# Altium footprint library 2019-05-13_06-14-18.PcbLib: 3 footprints
Each footprint in its own frame and in the unit in brackets; x right, y up, seen from the top. Pads: shape width x height; smd on the part's side, far side on the other; paste and mask are expansions set on the pad; w line width, h text height; cw(c..) or ccw(c..) is an arc to the next point about the centre after c.
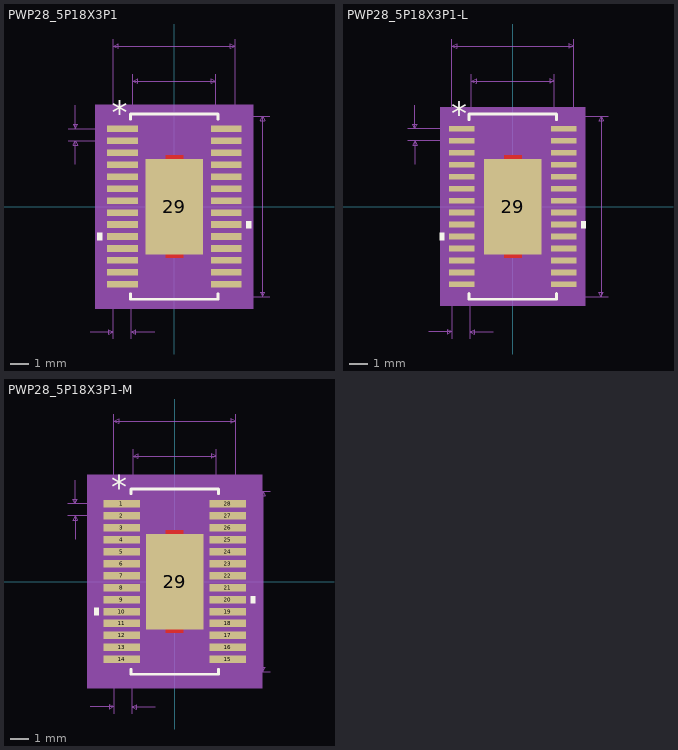
[diagram p0: the footprints below, top view; thin cyan lines are the x and y axes]

## PWP28_5P18X3P1 [mil]
pads (29):
  rect 66x14 smd paste+0 mask+0: 1(-111,166.34) 2(-111,140.75) 3(-111,115.16) 4(-111,89.57) 5(-111,63.98) 6(-111,38.39) 7(-111,12.8) 8(-111,-12.8) 9(-111,-38.39) 10(-111,-63.98) 11(-111,-89.57) 12(-111,-115.16) 13(-111,-140.75) 14(-111,-166.34) 15(111,-166.34) 16(111,-140.75) 17(111,-115.16) 18(111,-89.57) 19(111,-63.98) 20(111,-38.39) 21(111,-12.8) 22(111,12.8) 23(111,38.39) 24(111,63.98) 25(111,89.57) 26(111,115.16) 27(111,140.75) 28(111,166.34)
  rect 122.05x203.94 smd paste+0 mask+0: 29(0,0)
Top Layer:
  region: 18.7,-101.97 -18.7,-101.97 -18.7,-109.84 18.7,-109.84 18.7,-101.97
  region: 18.7,101.97 -18.7,101.97 -18.7,109.84 18.7,109.84 18.7,101.97
Top Overlay:
  region: 154,-30.89 164,-30.89 164,-45.89 154,-45.89
  region: -154,-56.48 -164,-56.48 -164,-71.48 -154,-71.48
  lines w6: -93.5,-186.44 -93.5,-197.91 93.5,-197.91 93.5,-186.44 ; -93.5,186.44 -93.5,197.91 93.5,197.91 93.5,186.44
  text "*" at -133.5,175.34 h50
Top Paste:
  region: 57.09,-54.92 3.94,-54.92 3.94,-98.03 57.09,-98.03
  region: 57.09,-3.94 3.94,-3.94 3.94,-47.05 57.09,-47.05
  region: 57.09,47.05 3.94,47.05 3.94,3.94 57.09,3.94
  region: 57.09,98.03 3.94,98.03 3.94,54.92 57.09,54.92
  region: -3.94,-54.92 -57.09,-54.92 -57.09,-98.03 -3.94,-98.03
  region: -3.94,-3.94 -57.09,-3.94 -57.09,-47.05 -3.94,-47.05
  region: -3.94,47.05 -57.09,47.05 -57.09,3.94 -3.94,3.94
  region: -3.94,98.03 -57.09,98.03 -57.09,54.92 -3.94,54.92
Top Solder:
  region: 18.7,-101.97 -18.7,-101.97 -18.7,-109.84 18.7,-109.84 18.7,-101.97
  region: 18.7,101.97 -18.7,101.97 -18.7,109.84 18.7,109.84 18.7,101.97
Mechanical 5:
  region: 169,-217.91 -169,-217.91 -169,217.91 169,217.91
Mechanical 7:
  lines w1: -226,140.75 -111,140.75 ; -226,166.34 -111,166.34 ; -211,90.75 -211,140.75 ; -211,216.34 -211,166.34 ; -180,-267.91 -130,-267.91 ; -130,-282.91 -130,0 -130,357.91 ; -92,-282.91 -92,0 ; -88.5,0 -88.5,282.91 ; -42,-267.91 -92,-267.91 ; 0,-192.91 203.5,-192.91 ; 0,192.91 203.5,192.91 ; 88.5,0 88.5,282.91 ; 130,0 130,357.91 ; -211,140.75 -206,130.75 -216,130.75 -211,140.75 ; -211,166.34 -206,176.34 -216,176.34 -211,166.34 ; -130,-267.91 -140,-272.91 -140,-262.91 -130,-267.91 ; -130,342.91 -120,337.91 -120,347.91 -130,342.91 ; -130,342.91 130,342.91 ; -92,-267.91 -82,-272.91 -82,-262.91 -92,-267.91 ; -88.5,267.91 -78.5,262.91 -78.5,272.91 -88.5,267.91 ; -88.5,267.91 88.5,267.91 ; 88.5,267.91 78.5,262.91 78.5,272.91 88.5,267.91 ; 130,342.91 120,337.91 120,347.91 130,342.91 ; 188.5,-192.91 193.5,-182.91 183.5,-182.91 188.5,-192.91 ; 188.5,-192.91 188.5,192.91 ; 188.5,192.91 193.5,182.91 183.5,182.91 188.5,192.91
  text "0.03in/0.762mm" at -198.5,-312.91 h25
  text "0.026in/0.65mm" at -406,141.05 h25
  text "0.386in/9.8mm" at 208.5,-12.5 h25
  text "0.26in/6.604mm" at -87.5,362.91 h25
  text "0.177in/4.496mm" at -93.75,287.91 h25
  text "Alt 2 Padstyle: OX90Y60D30P" at -337.5,-692.91 h50
  text "Alt 1 Padstyle: OX60Y90D30P" at -337.5,-632.91 h50
  text "Heat Tab Padstyle: RX122p05Y203p94D0T" at -462.5,-512.91 h50
  text "Pin One Padstyle: RX66Y14D0T" at -350,-452.91 h50
  text "Default Padstyle: RX66Y14D0T" at -350,-392.91 h50
Mechanical 13:
  lines w0: -12,192.91 ccw(c0,192.91) 12,192.91
  lines w1: -130,-172.34 -88.5,-172.34 -88.5,-160.34 -130,-160.34 -130,-172.34 ; -130,-146.75 -88.5,-146.75 -88.5,-134.75 -130,-134.75 -130,-146.75 ; -130,-121.16 -88.5,-121.16 -88.5,-109.16 -130,-109.16 -130,-121.16 ; -130,-95.57 -88.5,-95.57 -88.5,-83.57 -130,-83.57 -130,-95.57 ; -130,-69.98 -88.5,-69.98 -88.5,-57.98 -130,-57.98 -130,-69.98 ; -130,-44.39 -88.5,-44.39 -88.5,-32.39 -130,-32.39 -130,-44.39 ; -130,-18.8 -88.5,-18.8 -88.5,-6.8 -130,-6.8 -130,-18.8 ; -130,6.8 -88.5,6.8 -88.5,18.8 -130,18.8 -130,6.8 ; -130,32.39 -88.5,32.39 -88.5,44.39 -130,44.39 -130,32.39 ; -130,57.98 -88.5,57.98 -88.5,69.98 -130,69.98 -130,57.98 ; -130,83.57 -88.5,83.57 -88.5,95.57 -130,95.57 -130,83.57 ; -130,109.16 -88.5,109.16 -88.5,121.16 -130,121.16 -130,109.16 ; -130,134.75 -88.5,134.75 -88.5,146.75 -130,146.75 -130,134.75 ; -130,160.34 -88.5,160.34 -88.5,172.34 -130,172.34 -130,160.34 ; -88.5,-192.91 -88.5,192.91 88.5,192.91 88.5,-192.91 -88.5,-192.91 ; 88.5,-172.34 130,-172.34 130,-160.34 88.5,-160.34 88.5,-172.34 ; 88.5,-146.75 130,-146.75 130,-134.75 88.5,-134.75 88.5,-146.75 ; 88.5,-121.16 130,-121.16 130,-109.16 88.5,-109.16 88.5,-121.16 ; 88.5,-95.57 130,-95.57 130,-83.57 88.5,-83.57 88.5,-95.57 ; 88.5,-69.98 130,-69.98 130,-57.98 88.5,-57.98 88.5,-69.98 ; 88.5,-44.39 130,-44.39 130,-32.39 88.5,-32.39 88.5,-44.39 ; 88.5,-18.8 130,-18.8 130,-6.8 88.5,-6.8 88.5,-18.8 ; 88.5,6.8 130,6.8 130,18.8 88.5,18.8 88.5,6.8 ; 88.5,32.39 130,32.39 130,44.39 88.5,44.39 88.5,32.39 ; 88.5,57.98 130,57.98 130,69.98 88.5,69.98 88.5,57.98 ; 88.5,83.57 130,83.57 130,95.57 88.5,95.57 88.5,83.57 ; 88.5,109.16 130,109.16 130,121.16 88.5,121.16 88.5,109.16 ; 88.5,134.75 130,134.75 130,146.75 88.5,146.75 88.5,134.75 ; 88.5,160.34 130,160.34 130,172.34 88.5,172.34 88.5,160.34
  text "*" at -91,130.34 h50
Mechanical 15:
  region: -98.5,-181.14 -154,-181.14 -154,181.14 -98.5,181.14 -98.5,202.91 98.5,202.91 98.5,181.14 154,181.14 154,-181.14 98.5,-181.14 98.5,-202.91 -98.5,-202.91
  lines w6: -154,-181.14 -98.5,-181.14 -98.5,-202.91 98.5,-202.91 98.5,-181.14 154,-181.14 154,181.14 98.5,181.14 98.5,202.91 -98.5,202.91 -98.5,181.14 -154,181.14 -154,-181.14
3D body: height 10, standoff 0, extent 0,0 10,10

## PWP28_5P18X3P1-L [mil]
pads (29):
  rect 54x12 smd paste+0 mask+0: 1(-109,166.34) 2(-109,140.75) 3(-109,115.16) 4(-109,89.57) 5(-109,63.98) 6(-109,38.39) 7(-109,12.8) 8(-109,-12.8) 9(-109,-38.39) 10(-109,-63.98) 11(-109,-89.57) 12(-109,-115.16) 13(-109,-140.75) 14(-109,-166.34) 15(109,-166.34) 16(109,-140.75) 17(109,-115.16) 18(109,-89.57) 19(109,-63.98) 20(109,-38.39) 21(109,-12.8) 22(109,12.8) 23(109,38.39) 24(109,63.98) 25(109,89.57) 26(109,115.16) 27(109,140.75) 28(109,166.34)
  rect 122.05x203.94 smd paste+0 mask+0: 29(0,0)
Top Layer:
  region: 18.7,101.97 -18.7,101.97 -18.7,109.84 18.7,109.84 18.7,101.97
  region: 18.7,-101.97 -18.7,-101.97 -18.7,-109.84 18.7,-109.84 18.7,-101.97
Top Overlay:
  region: -146,-56.48 -156,-56.48 -156,-71.48 -146,-71.48
  region: 146,-30.89 156,-30.89 156,-45.89 146,-45.89
  lines w6: -93.5,-185.44 -93.5,-197.91 93.5,-197.91 93.5,-185.44 ; -93.5,185.44 -93.5,197.91 93.5,197.91 93.5,185.44
  text "*" at -131.5,173.34 h50
Top Paste:
  region: -3.94,98.03 -57.09,98.03 -57.09,54.92 -3.94,54.92
  region: -3.94,47.05 -57.09,47.05 -57.09,3.94 -3.94,3.94
  region: -3.94,-3.94 -57.09,-3.94 -57.09,-47.05 -3.94,-47.05
  region: -3.94,-54.92 -57.09,-54.92 -57.09,-98.03 -3.94,-98.03
  region: 57.09,98.03 3.94,98.03 3.94,54.92 57.09,54.92
  region: 57.09,47.05 3.94,47.05 3.94,3.94 57.09,3.94
  region: 57.09,-3.94 3.94,-3.94 3.94,-47.05 57.09,-47.05
  region: 57.09,-54.92 3.94,-54.92 3.94,-98.03 57.09,-98.03
Top Solder:
  region: 18.7,101.97 -18.7,101.97 -18.7,109.84 18.7,109.84 18.7,101.97
  region: 18.7,-101.97 -18.7,-101.97 -18.7,-109.84 18.7,-109.84 18.7,-101.97
Mechanical 5:
  region: 155,-211.91 -155,-211.91 -155,211.91 155,211.91
Mechanical 7:
  lines w1: -224,140.75 -109,140.75 ; -224,166.34 -109,166.34 ; -209,90.75 -209,140.75 ; -209,216.34 -209,166.34 ; -180,-267.91 -130,-267.91 ; -130,-282.91 -130,0 -130,357.91 ; -92,-282.91 -92,0 ; -88.5,0 -88.5,282.91 ; -42,-267.91 -92,-267.91 ; 0,-192.91 203.5,-192.91 ; 0,192.91 203.5,192.91 ; 88.5,0 88.5,282.91 ; 130,0 130,357.91 ; -209,140.75 -214,130.75 -204,130.75 -209,140.75 ; -209,166.34 -214,176.34 -204,176.34 -209,166.34 ; -130,-267.91 -140,-262.91 -140,-272.91 -130,-267.91 ; -130,342.91 130,342.91 ; -130,342.91 -120,347.91 -120,337.91 -130,342.91 ; -92,-267.91 -82,-262.91 -82,-272.91 -92,-267.91 ; -88.5,267.91 88.5,267.91 ; -88.5,267.91 -78.5,272.91 -78.5,262.91 -88.5,267.91 ; 88.5,267.91 78.5,272.91 78.5,262.91 88.5,267.91 ; 130,342.91 120,347.91 120,337.91 130,342.91 ; 188.5,-192.91 188.5,192.91 ; 188.5,-192.91 183.5,-182.91 193.5,-182.91 188.5,-192.91 ; 188.5,192.91 183.5,182.91 193.5,182.91 188.5,192.91
  text "Default Padstyle: RX54Y12D0T" at -350,-392.91 h50
  text "Pin One Padstyle: RX54Y12D0T" at -350,-452.91 h50
  text "Heat Tab Padstyle: RX122p05Y203p94D0T" at -462.5,-512.91 h50
  text "Alt 1 Padstyle: OX60Y90D30P" at -337.5,-632.91 h50
  text "Alt 2 Padstyle: OX90Y60D30P" at -337.5,-692.91 h50
  text "0.177in/4.496mm" at -93.75,287.91 h25
  text "0.26in/6.604mm" at -87.5,362.91 h25
  text "0.386in/9.8mm" at 208.5,-12.5 h25
  text "0.026in/0.65mm" at -404,141.05 h25
  text "0.03in/0.762mm" at -198.5,-312.91 h25
Mechanical 13:
  lines w0: -12,192.91 ccw(c0,192.91) 12,192.91
  lines w1: -130,-172.34 -130,-160.34 -88.5,-160.34 -88.5,-172.34 -130,-172.34 ; -130,-146.75 -130,-134.75 -88.5,-134.75 -88.5,-146.75 -130,-146.75 ; -130,-121.16 -130,-109.16 -88.5,-109.16 -88.5,-121.16 -130,-121.16 ; -130,-95.57 -130,-83.57 -88.5,-83.57 -88.5,-95.57 -130,-95.57 ; -130,-69.98 -130,-57.98 -88.5,-57.98 -88.5,-69.98 -130,-69.98 ; -130,-44.39 -130,-32.39 -88.5,-32.39 -88.5,-44.39 -130,-44.39 ; -130,-18.8 -130,-6.8 -88.5,-6.8 -88.5,-18.8 -130,-18.8 ; -130,6.8 -130,18.8 -88.5,18.8 -88.5,6.8 -130,6.8 ; -130,32.39 -130,44.39 -88.5,44.39 -88.5,32.39 -130,32.39 ; -130,57.98 -130,69.98 -88.5,69.98 -88.5,57.98 -130,57.98 ; -130,83.57 -130,95.57 -88.5,95.57 -88.5,83.57 -130,83.57 ; -130,109.16 -130,121.16 -88.5,121.16 -88.5,109.16 -130,109.16 ; -130,134.75 -130,146.75 -88.5,146.75 -88.5,134.75 -130,134.75 ; -130,160.34 -130,172.34 -88.5,172.34 -88.5,160.34 -130,160.34 ; -88.5,-192.91 88.5,-192.91 88.5,192.91 -88.5,192.91 -88.5,-192.91 ; 88.5,-172.34 88.5,-160.34 130,-160.34 130,-172.34 88.5,-172.34 ; 88.5,-146.75 88.5,-134.75 130,-134.75 130,-146.75 88.5,-146.75 ; 88.5,-121.16 88.5,-109.16 130,-109.16 130,-121.16 88.5,-121.16 ; 88.5,-95.57 88.5,-83.57 130,-83.57 130,-95.57 88.5,-95.57 ; 88.5,-69.98 88.5,-57.98 130,-57.98 130,-69.98 88.5,-69.98 ; 88.5,-44.39 88.5,-32.39 130,-32.39 130,-44.39 88.5,-44.39 ; 88.5,-18.8 88.5,-6.8 130,-6.8 130,-18.8 88.5,-18.8 ; 88.5,6.8 88.5,18.8 130,18.8 130,6.8 88.5,6.8 ; 88.5,32.39 88.5,44.39 130,44.39 130,32.39 88.5,32.39 ; 88.5,57.98 88.5,69.98 130,69.98 130,57.98 88.5,57.98 ; 88.5,83.57 88.5,95.57 130,95.57 130,83.57 88.5,83.57 ; 88.5,109.16 88.5,121.16 130,121.16 130,109.16 88.5,109.16 ; 88.5,134.75 88.5,146.75 130,146.75 130,134.75 88.5,134.75 ; 88.5,160.34 88.5,172.34 130,172.34 130,160.34 88.5,160.34
  text "*" at -91,128.34 h50
Mechanical 15:
  region: -92.5,-179.94 -140,-179.94 -140,179.94 -92.5,179.94 -92.5,196.91 92.5,196.91 92.5,179.94 140,179.94 140,-179.94 92.5,-179.94 92.5,-196.91 -92.5,-196.91
  lines w6: -140,-179.94 -140,179.94 -92.5,179.94 -92.5,196.91 92.5,196.91 92.5,179.94 140,179.94 140,-179.94 92.5,-179.94 92.5,-196.91 -92.5,-196.91 -92.5,-179.94 -140,-179.94
3D body: height 10, standoff 0, extent 0,0 10,10

## PWP28_5P18X3P1-M [mil]
pads (29):
  rect 78x16 smd paste+0 mask+0: 1(-113,166.34) 2(-113,140.75) 3(-113,115.16) 4(-113,89.57) 5(-113,63.98) 6(-113,38.39) 7(-113,12.8) 8(-113,-12.8) 9(-113,-38.39) 10(-113,-63.98) 11(-113,-89.57) 12(-113,-115.16) 13(-113,-140.75) 14(-113,-166.34) 15(113,-166.34) 16(113,-140.75) 17(113,-115.16) 18(113,-89.57) 19(113,-63.98) 20(113,-38.39) 21(113,-12.8) 22(113,12.8) 23(113,38.39) 24(113,63.98) 25(113,89.57) 26(113,115.16) 27(113,140.75) 28(113,166.34)
  rect 122.05x203.94 smd paste+0 mask+0: 29(0,0)
Top Layer:
  region: 18.7,101.97 -18.7,101.97 -18.7,109.84 18.7,109.84 18.7,101.97
  region: 18.7,-101.97 -18.7,-101.97 -18.7,-109.84 18.7,-109.84 18.7,-101.97
Top Overlay:
  region: -162,-56.48 -172,-56.48 -172,-71.48 -162,-71.48
  region: 162,-30.89 172,-30.89 172,-45.89 162,-45.89
  lines w6: -93.5,-187.44 -93.5,-197.91 93.5,-197.91 93.5,-187.44 ; -93.5,187.44 -93.5,197.91 93.5,197.91 93.5,187.44
  text "*" at -135.5,177.34 h50
Top Paste:
  region: -3.94,98.03 -57.09,98.03 -57.09,54.92 -3.94,54.92
  region: -3.94,47.05 -57.09,47.05 -57.09,3.94 -3.94,3.94
  region: -3.94,-3.94 -57.09,-3.94 -57.09,-47.05 -3.94,-47.05
  region: -3.94,-54.92 -57.09,-54.92 -57.09,-98.03 -3.94,-98.03
  region: 57.09,98.03 3.94,98.03 3.94,54.92 57.09,54.92
  region: 57.09,47.05 3.94,47.05 3.94,3.94 57.09,3.94
  region: 57.09,-3.94 3.94,-3.94 3.94,-47.05 57.09,-47.05
  region: 57.09,-54.92 3.94,-54.92 3.94,-98.03 57.09,-98.03
Top Solder:
  region: 18.7,101.97 -18.7,101.97 -18.7,109.84 18.7,109.84 18.7,101.97
  region: 18.7,-101.97 -18.7,-101.97 -18.7,-109.84 18.7,-109.84 18.7,-101.97
Mechanical 5:
  region: 187,-227.91 -187,-227.91 -187,227.91 187,227.91
Mechanical 7:
  lines w1: -228,140.75 -113,140.75 ; -228,166.34 -113,166.34 ; -213,90.75 -213,140.75 ; -213,216.34 -213,166.34 ; -180,-267.91 -130,-267.91 ; -130,-282.91 -130,0 -130,357.91 ; -92,-282.91 -92,0 ; -88.5,0 -88.5,282.91 ; -42,-267.91 -92,-267.91 ; 0,-192.91 203.5,-192.91 ; 0,192.91 203.5,192.91 ; 88.5,0 88.5,282.91 ; 130,0 130,357.91 ; -213,140.75 -218,130.75 -208,130.75 -213,140.75 ; -213,166.34 -218,176.34 -208,176.34 -213,166.34 ; -130,-267.91 -140,-262.91 -140,-272.91 -130,-267.91 ; -130,342.91 130,342.91 ; -130,342.91 -120,347.91 -120,337.91 -130,342.91 ; -92,-267.91 -82,-262.91 -82,-272.91 -92,-267.91 ; -88.5,267.91 88.5,267.91 ; -88.5,267.91 -78.5,272.91 -78.5,262.91 -88.5,267.91 ; 88.5,267.91 78.5,272.91 78.5,262.91 88.5,267.91 ; 130,342.91 120,347.91 120,337.91 130,342.91 ; 188.5,-192.91 188.5,192.91 ; 188.5,-192.91 183.5,-182.91 193.5,-182.91 188.5,-192.91 ; 188.5,192.91 183.5,182.91 193.5,182.91 188.5,192.91
  text "Default Padstyle: RX78Y16D0T" at -350,-392.91 h50
  text "Pin One Padstyle: RX78Y16D0T" at -350,-452.91 h50
  text "Heat Tab Padstyle: RX122p05Y203p94D0T" at -462.5,-512.91 h50
  text "Alt 1 Padstyle: OX60Y90D30P" at -337.5,-632.91 h50
  text "Alt 2 Padstyle: OX90Y60D30P" at -337.5,-692.91 h50
  text "0.177in/4.496mm" at -93.75,287.91 h25
  text "0.26in/6.604mm" at -87.5,362.91 h25
  text "0.386in/9.8mm" at 208.5,-12.5 h25
  text "0.026in/0.65mm" at -408,141.05 h25
  text "0.03in/0.762mm" at -198.5,-312.91 h25
Mechanical 13:
  lines w0: -12,192.91 ccw(c0,192.91) 12,192.91
  lines w1: -130,-172.34 -130,-160.34 -88.5,-160.34 -88.5,-172.34 -130,-172.34 ; -130,-146.75 -130,-134.75 -88.5,-134.75 -88.5,-146.75 -130,-146.75 ; -130,-121.16 -130,-109.16 -88.5,-109.16 -88.5,-121.16 -130,-121.16 ; -130,-95.57 -130,-83.57 -88.5,-83.57 -88.5,-95.57 -130,-95.57 ; -130,-69.98 -130,-57.98 -88.5,-57.98 -88.5,-69.98 -130,-69.98 ; -130,-44.39 -130,-32.39 -88.5,-32.39 -88.5,-44.39 -130,-44.39 ; -130,-18.8 -130,-6.8 -88.5,-6.8 -88.5,-18.8 -130,-18.8 ; -130,6.8 -130,18.8 -88.5,18.8 -88.5,6.8 -130,6.8 ; -130,32.39 -130,44.39 -88.5,44.39 -88.5,32.39 -130,32.39 ; -130,57.98 -130,69.98 -88.5,69.98 -88.5,57.98 -130,57.98 ; -130,83.57 -130,95.57 -88.5,95.57 -88.5,83.57 -130,83.57 ; -130,109.16 -130,121.16 -88.5,121.16 -88.5,109.16 -130,109.16 ; -130,134.75 -130,146.75 -88.5,146.75 -88.5,134.75 -130,134.75 ; -130,160.34 -130,172.34 -88.5,172.34 -88.5,160.34 -130,160.34 ; -88.5,-192.91 88.5,-192.91 88.5,192.91 -88.5,192.91 -88.5,-192.91 ; 88.5,-172.34 88.5,-160.34 130,-160.34 130,-172.34 88.5,-172.34 ; 88.5,-146.75 88.5,-134.75 130,-134.75 130,-146.75 88.5,-146.75 ; 88.5,-121.16 88.5,-109.16 130,-109.16 130,-121.16 88.5,-121.16 ; 88.5,-95.57 88.5,-83.57 130,-83.57 130,-95.57 88.5,-95.57 ; 88.5,-69.98 88.5,-57.98 130,-57.98 130,-69.98 88.5,-69.98 ; 88.5,-44.39 88.5,-32.39 130,-32.39 130,-44.39 88.5,-44.39 ; 88.5,-18.8 88.5,-6.8 130,-6.8 130,-18.8 88.5,-18.8 ; 88.5,6.8 88.5,18.8 130,18.8 130,6.8 88.5,6.8 ; 88.5,32.39 88.5,44.39 130,44.39 130,32.39 88.5,32.39 ; 88.5,57.98 88.5,69.98 130,69.98 130,57.98 88.5,57.98 ; 88.5,83.57 88.5,95.57 130,95.57 130,83.57 88.5,83.57 ; 88.5,109.16 88.5,121.16 130,121.16 130,109.16 88.5,109.16 ; 88.5,134.75 88.5,146.75 130,146.75 130,134.75 88.5,134.75 ; 88.5,160.34 88.5,172.34 130,172.34 130,160.34 88.5,160.34
  text "*" at -91,132.34 h50
Mechanical 15:
  region: -108.5,-183.14 -172,-183.14 -172,183.14 -108.5,183.14 -108.5,212.91 108.5,212.91 108.5,183.14 172,183.14 172,-183.14 108.5,-183.14 108.5,-212.91 -108.5,-212.91
  lines w6: -172,-183.14 -172,183.14 -108.5,183.14 -108.5,212.91 108.5,212.91 108.5,183.14 172,183.14 172,-183.14 108.5,-183.14 108.5,-212.91 -108.5,-212.91 -108.5,-183.14 -172,-183.14
3D body: height 10, standoff 0, extent 0,0 10,10